# EAGLE library part EPM7064-J84 (library altera_SGQ)
EPM7064 MAX 7000 family
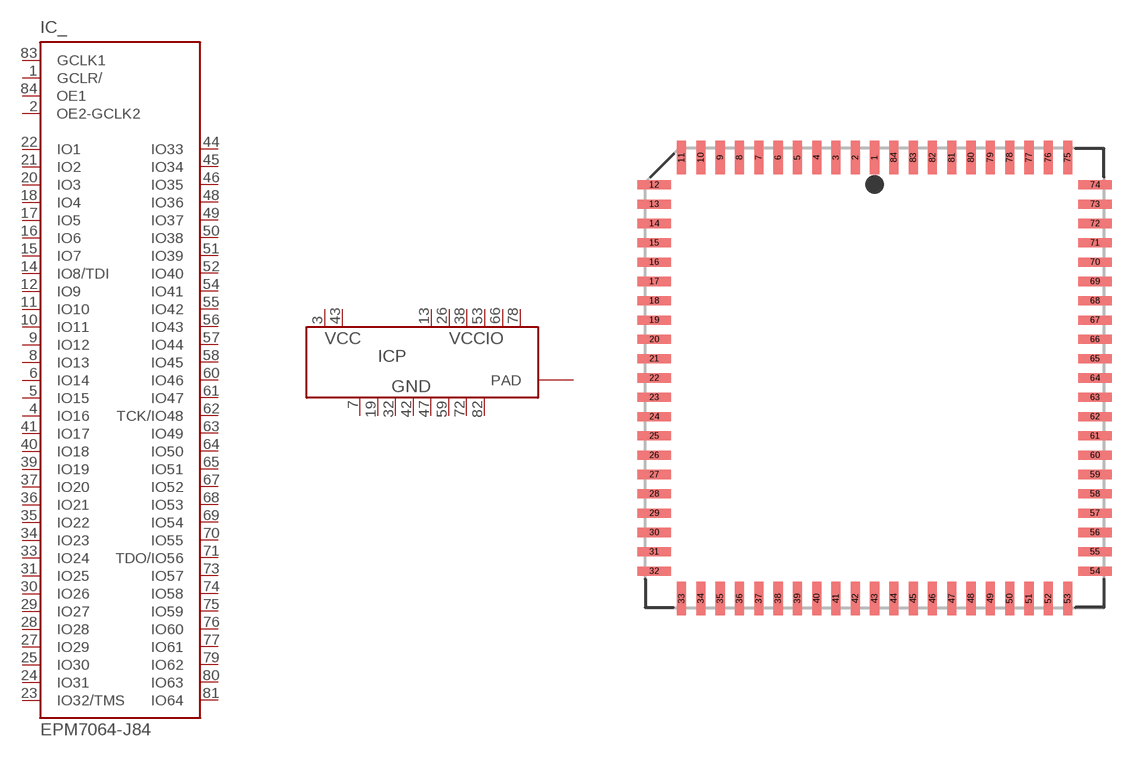
[diagram p30: symbol with the pads of PLCC84; footprint PLCC84]

Designator prefix IC; gates _=EPM7064S P=PWR8-2-6

## EPM7064-J84 (MPN: EPM7064SLC84-10N; OC_FARNELL: 1549457; OC_NEWARK: 51R9623)  [PLCC84]
1  _:GCLR/  in
2  _:OE2-GCLK2  in
3  P:VCC  pwr
4  _:IO16
5  _:IO15
6  _:IO14
7  P:GND  pwr
8  _:IO13
9  _:IO12
10  _:IO11
11  _:IO10
12  _:IO9
13  P:VCCIO  pwr
14  _:IO8/TDI
15  _:IO7
16  _:IO6
17  _:IO5
18  _:IO4
19  P:GND  pwr
20  _:IO3
21  _:IO2
22  _:IO1
23  _:IO32/TMS
24  _:IO31
25  _:IO30
26  P:VCCIO  pwr
27  _:IO29
28  _:IO28
29  _:IO27
30  _:IO26
31  _:IO25
32  P:GND  pwr
33  _:IO24
34  _:IO23
35  _:IO22
36  _:IO21
37  _:IO20
38  P:VCCIO  pwr
39  _:IO19
40  _:IO18
41  _:IO17
42  P:GND  pwr
43  P:VCC  pwr
44  _:IO33
45  _:IO34
46  _:IO35
47  P:GND  pwr
48  _:IO36
49  _:IO37
50  _:IO38
51  _:IO39
52  _:IO40
53  P:VCCIO  pwr
54  _:IO41
55  _:IO42
56  _:IO43
57  _:IO44
58  _:IO45
59  P:GND  pwr
60  _:IO46
61  _:IO47
62  _:TCK/IO48
63  _:IO49
64  _:IO50
65  _:IO51
66  P:VCCIO  pwr
67  _:IO52
68  _:IO53
69  _:IO54
70  _:IO55
71  _:TDO/IO56
72  P:GND  pwr
73  _:IO57
74  _:IO58
75  _:IO59
76  _:IO60
77  _:IO61
78  P:VCCIO  pwr
79  _:IO62
80  _:IO63
81  _:IO64
82  P:GND  pwr
83  _:GCLK1  in
84  _:OE1  in

## Footprint PLCC84 (pad centres in mm)
Plastic J-Lead Chip Carrier
smd 0.6 x 2.2: 1 0,14.5; 2 -1.27,14.5; 3 -2.54,14.5; 4 -3.81,14.5; 5 -5.08,14.5; 6 -6.35,14.5; 7 -7.62,14.5; 8 -8.89,14.5; 9 -10.16,14.5; 10 -11.43,14.5; 11 -12.7,14.5; 33 -12.7,-14.5; 34 -11.43,-14.5; 35 -10.16,-14.5; 36 -8.89,-14.5; 37 -7.62,-14.5; 38 -6.35,-14.5; 39 -5.08,-14.5; 40 -3.81,-14.5; 41 -2.54,-14.5; 42 -1.27,-14.5; 43 0,-14.5; 44 1.27,-14.5; 45 2.54,-14.5; 46 3.81,-14.5; 47 5.08,-14.5; 48 6.35,-14.5; 49 7.62,-14.5; 50 8.89,-14.5; 51 10.16,-14.5; 52 11.43,-14.5; 53 12.7,-14.5; 75 12.7,14.5; 76 11.43,14.5; 77 10.16,14.5; 78 8.89,14.5; 79 7.62,14.5; 80 6.35,14.5; 81 5.08,14.5; 82 3.81,14.5; 83 2.54,14.5; 84 1.27,14.5
smd 2.2 x 0.6: 12 -14.5,12.7; 13 -14.5,11.43; 14 -14.5,10.16; 15 -14.5,8.89; 16 -14.5,7.62; 17 -14.5,6.35; 18 -14.5,5.08; 19 -14.5,3.81; 20 -14.5,2.54; 21 -14.5,1.27; 22 -14.5,0; 23 -14.5,-1.27; 24 -14.5,-2.54; 25 -14.5,-3.81; 26 -14.5,-5.08; 27 -14.5,-6.35; 28 -14.5,-7.62; 29 -14.5,-8.89; 30 -14.5,-10.16; 31 -14.5,-11.43; 32 -14.5,-12.7; 54 14.5,-12.7; 55 14.5,-11.43; 56 14.5,-10.16; 57 14.5,-8.89; 58 14.5,-7.62; 59 14.5,-6.35; 60 14.5,-5.08; 61 14.5,-3.81; 62 14.5,-2.54; 63 14.5,-1.27; 64 14.5,0; 65 14.5,1.27; 66 14.5,2.54; 67 14.5,3.81; 68 14.5,5.08; 69 14.5,6.35; 70 14.5,7.62; 71 14.5,8.89; 72 14.5,10.16; 73 14.5,11.43; 74 14.5,12.7